# Altium schematic symbol library IFX91041EJV50XUMA1.SchLib: 1 symbol
Pins are listed as number, name and electrical type; pins without a type are passive.

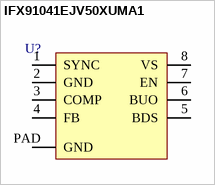
[diagram p0: symbol IFX91041EJV50XUMA1]

## IFX91041EJV50XUMA1
designator U?  (value not drawn)
pins: 1 SYNC, 2 GND, 3 COMP, 4 FB, 5 BDS, 6 BUO, 7 EN, 8 VS, PAD GND
1 alternate drawing of the same symbol